# Altium footprint library condesator1.PcbLib: 1 footprints
Each footprint in its own frame and in the unit in brackets; x right, y up, seen from the top. Pads: shape width x height; smd on the part's side, far side on the other; paste and mask are expansions set on the pad; w line width, h text height; cw(c..) or ccw(c..) is an arc to the next point about the centre after c.
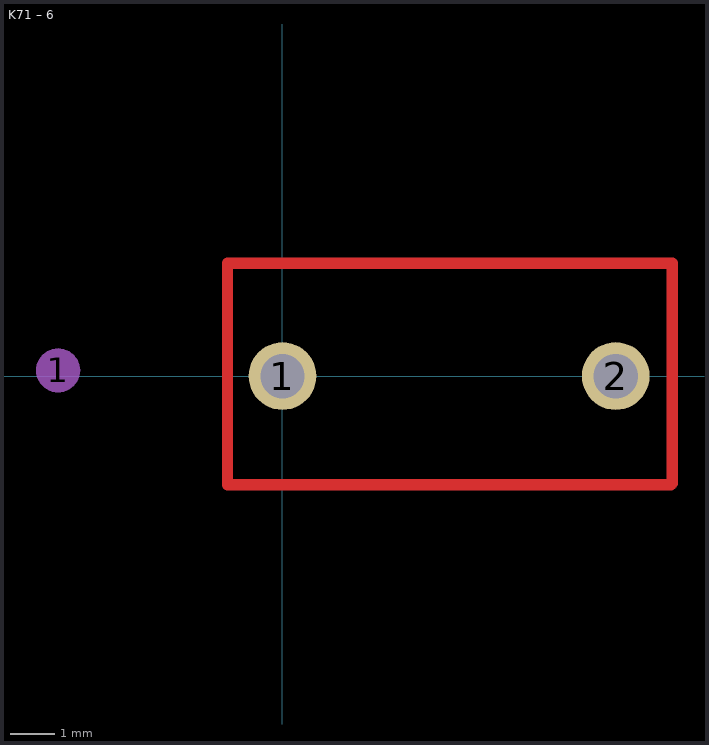
[diagram p0: the footprint, top view; thin cyan lines are the x and y axes]

## K71 – 6 [mil] "C?"
height 10
pads (3):
  round 39.37 on Mech1: 1(-198.7,5)
  round 60 hole 39.37: 1(0,0) 2(295,0)
Top Layer:
  lines w10: -48.7,-96.3 -48.7,100 345,100 345,-95 343.7,-96.3 -48.7,-96.3